# Altium footprint library CapTantalum.PcbLib: 46 footprints (part 2 of 3)
Each footprint in its own frame and in the unit in brackets; x right, y up, seen from the top. Pads: shape width x height; smd on the part's side, far side on the other; paste and mask are expansions set on the pad; w line width, h text height; cw(c..) or ccw(c..) is an arc to the next point about the centre after c.
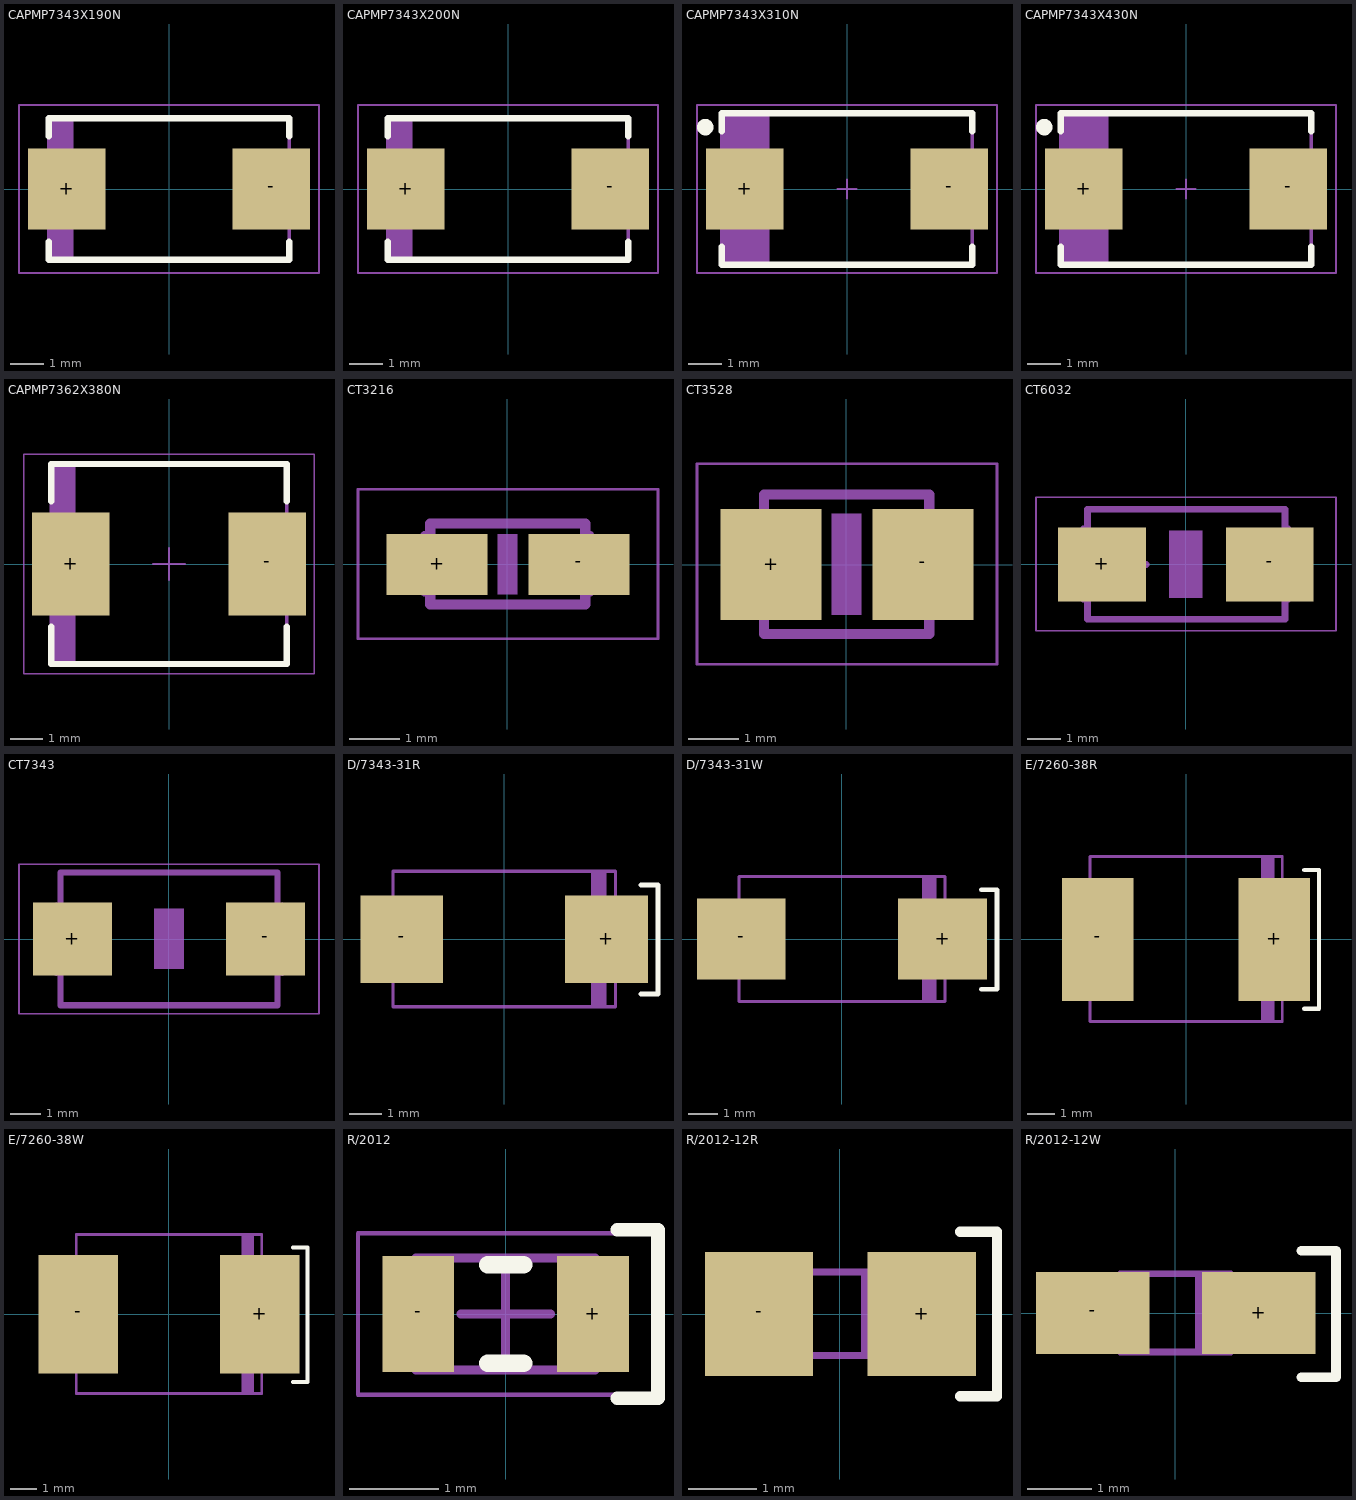
[diagram p1: the footprints below, top view; thin cyan lines are the x and y axes]

## CAPMP7343X190N [mm] "Capacitor, Polarized, Molded  Body 7.3x4.3mm, IPC Medium Density"
height 1.9
pads (2):
  rect 2.35x2.45 smd: +(-3.1,0) -(3.1,0)
Top Overlay:
  lines w0.2: -3.65,-1.6 -3.65,-2.15 3.65,-2.15 3.65,-1.6 ; -3.65,1.6 -3.65,2.15 3.65,2.15 3.65,1.6
Mechanical 14:
  lines w0.1: -3.55,-2.15 -3.55,2.15 ; -3.45,-2.15 -3.45,2.15 ; -3.35,-2.15 -3.35,2.15 ; -3.25,-2.15 -3.25,2.15 ; -3.15,-2.15 -3.15,2.15 ; -3.05,-2.15 -3.05,2.15 ; -2.95,-2.15 -2.95,2.15 ; -3.65,-2.15 -3.65,2.15 ; -3.65,-2.15 -3.65,2.15 ; -3.65,-2.15 3.65,-2.15 3.65,2.15 -3.65,2.15
Mechanical 15:
  lines w0.05: -4.55,-2.55 -4.55,2.55 4.55,2.55 4.55,-2.55 -4.55,-2.55
3D body "CAPMP7343X190N.stp": height 1.9, standoff 0, extent -3.8,-2.3 3.8,2.3

## CAPMP7343X200N [mm] "Capacitor, Polarized, Molded  Body 7.3x4.3mm, IPC Medium Density"
height 2
pads (2):
  rect 2.35x2.45 smd: +(-3.1,0) -(3.1,0)
Top Overlay:
  lines w0.2: -3.65,-1.6 -3.65,-2.15 3.65,-2.15 3.65,-1.6 ; -3.65,1.6 -3.65,2.15 3.65,2.15 3.65,1.6
Mechanical 14:
  lines w0.1: -3.55,-2.15 -3.55,2.15 ; -3.45,-2.15 -3.45,2.15 ; -3.35,-2.15 -3.35,2.15 ; -3.25,-2.15 -3.25,2.15 ; -3.15,-2.15 -3.15,2.15 ; -3.05,-2.15 -3.05,2.15 ; -2.95,-2.15 -2.95,2.15 ; -3.65,-2.15 3.65,-2.15 3.65,2.15 -3.65,2.15 ; -3.65,-2.15 -3.65,2.15 ; -3.65,-2.15 -3.65,2.15
Mechanical 15:
  lines w0.05: -4.55,-2.55 4.55,-2.55 4.55,2.55 -4.55,2.55 -4.55,-2.55
3D body "CAPMP7343X200N.stp": height 2, standoff 0, extent -3.8,-2.3 3.8,2.3

## CAPMP7343X310N [mm] "Capacitor, Polarized, Molded  Body 7.3x4.3mm, IPC Medium Density"
height 3.1
pads (2):
  rect 2.35x2.45 smd: +(-3.1,0) -(3.1,0)
Top Overlay:
  circle w0.25: c-4.3,1.875 r0.125
  lines w0.2: -3.8,-1.75 -3.8,-2.3 3.8,-2.3 3.8,-1.75 ; -3.8,1.75 -3.8,2.3 3.8,2.3 3.8,1.75
Mechanical 14:
  lines w0.1: -3.75,-2.3 -3.75,2.3 ; -3.675,-2.3 -3.675,2.3 ; -3.6,-2.3 -3.6,2.3 ; -3.525,-2.3 -3.525,2.3 ; -3.45,-2.3 -3.45,2.3 ; -3.375,-2.3 -3.375,2.3 ; -3.3,-2.3 -3.3,2.3 ; -3.225,-2.3 -3.225,2.3 ; -3.15,-2.3 -3.15,2.3 ; -3.075,-2.3 -3.075,2.3 ; -3,-2.3 -3,2.3 ; -2.925,-2.3 -2.925,2.3 ; -2.85,-2.3 -2.85,2.3 ; -2.775,-2.3 -2.775,2.3 ; -2.7,-2.3 -2.7,2.3 ; -2.625,-2.3 -2.625,2.3 ; -2.55,-2.3 -2.55,2.3 ; -2.475,-2.3 -2.475,2.3 ; -2.4,-2.3 -2.4,2.3 ; -3.8,-2.3 -3.8,2.3 3.8,2.3 3.8,-2.3 -3.8,-2.3
Mechanical 15:
  lines w0.05: -0.3,0 0.3,0 ; 0,-0.3 0,0.3 ; -4.55,-2.55 -4.55,2.55 4.55,2.55 4.55,-2.55 -4.55,-2.55
3D body "CAPMP7343X310N.stp": height 3.1, standoff 0, extent -3.8,-2.3 3.8,2.3

## CAPMP7343X430N [mm] "Capacitor, Polarized, Molded  Body 7.3x4.3mm, IPC Medium Density"
height 4.3
pads (2):
  rect 2.35x2.45 smd: +(-3.1,0) -(3.1,0)
Top Overlay:
  circle w0.25: c-4.3,1.875 r0.125
  lines w0.2: -3.8,-1.75 -3.8,-2.3 3.8,-2.3 3.8,-1.75 ; -3.8,1.75 -3.8,2.3 3.8,2.3 3.8,1.75
Mechanical 14:
  lines w0.1: -3.7,-2.3 -3.7,2.3 ; -3.625,-2.3 -3.625,2.3 ; -3.55,-2.3 -3.55,2.3 ; -3.475,-2.3 -3.475,2.3 ; -3.4,-2.3 -3.4,2.3 ; -3.325,-2.3 -3.325,2.3 ; -3.25,-2.3 -3.25,2.3 ; -3.175,-2.3 -3.175,2.3 ; -3.1,-2.3 -3.1,2.3 ; -3.025,-2.3 -3.025,2.3 ; -2.95,-2.3 -2.95,2.3 ; -2.875,-2.3 -2.875,2.3 ; -2.8,-2.3 -2.8,2.3 ; -2.725,-2.3 -2.725,2.3 ; -2.65,-2.3 -2.65,2.3 ; -2.575,-2.3 -2.575,2.3 ; -2.5,-2.3 -2.5,2.3 ; -2.4,-2.3 -2.4,2.3 ; -3.8,-2.3 3.8,-2.3 3.8,2.3 -3.8,2.3 -3.8,-2.3
Mechanical 15:
  lines w0.05: -0.3,0 0.3,0 ; 0,-0.3 0,0.3 ; -4.55,-2.55 4.55,-2.55 4.55,2.55 -4.55,2.55 -4.55,-2.55
3D body "CAPMP7343X430N.stp": height 4.3, standoff 0, extent -3.8,-2.3 3.8,2.3

## CAPMP7362X380N [mm] "Molded Capacitor, 2-Leads, Body 7.3x6.2mm, IPC Medium Density"
height 3.8
pads (2):
  rect 2.4x3.2 smd: +(-3.05,0) -(3.05,0)
Top Overlay:
  lines w0.2: -3.65,-1.95 -3.65,-3.1 3.65,-3.1 3.65,-1.95 ; -3.65,1.95 -3.65,3.1 3.65,3.1 3.65,1.95
Mechanical 14:
  lines w0.1: -3.55,-3.075 -3.55,3.075 ; -3.45,-3.075 -3.45,3.075 ; -3.35,-3.075 -3.35,3.075 ; -3.25,-3.075 -3.25,3.075 ; -3.15,-3.075 -3.15,3.075 ; -3.05,-3.075 -3.05,3.075 ; -2.95,-3.075 -2.95,3.075 ; -3.65,-3.075 3.65,-3.075 3.65,3.075 -3.65,3.075 ; -3.65,-3.075 -3.65,3.075 ; -3.65,-3.075 -3.65,3.075
Mechanical 15:
  lines w0.05: -0.5,0 0.5,0 ; 0,-0.5 0,0.5 ; -4.5,-3.4 4.5,-3.4 4.5,3.4 -4.5,3.4 -4.5,-3.4
3D body "CAPMP7362X380N.stp": height 3.8, standoff 0, extent -3.75,-3.15 3.75,3.15

## CT3216 [mil]
pads (2):
  rect 79x48 smd: +(-55.12,0) -(56,0)
Mechanical 6:
  rectangle: -7.87,-23.62 8,24
Mechanical 16:
  lines w6: -65,-22.01 -65,23 ; 65,-22.01 65,23
  lines w8: -49.61,0 -27.56,0 ; -38.19,-11.81 -38.19,11 ; -60.43,-31.42 -60.43,32 61,32 61,-31.42 -60.43,-31.42
Mechanical 27:
  lines w2: -117.05,-58.39 118,-58.39 118,59 -117.05,59 -117.05,-58.39
3D body "TantalC_SizeA_EIA-3216_Reflow.step": height 70.87, standoff 0, extent -66.93,-35.44 66.92,35.43

## CT3528 [mil]
pads (2):
  rect 79x87 smd: +(-59.06,0) -(60,0)
Mechanical 6:
  rectangle: -11.81,-39.37 12,40
Mechanical 16:
  lines w6: -70,-40 -70,40 ; 70,-40 70,40
  lines w8: -51.57,0 -26.77,0 ; -39.37,-12.99 -39.37,12 ; -64.45,-54.45 65,-54.45 65,55 -64.45,55 -64.45,-54.45
Mechanical 27:
  lines w2: -117.05,-78.07 -117.05,79 118,79 118,-78.07 -117.05,-78.07
3D body "TantalC_SizeB_EIA-3528_Reflow.step": height 82.68, standoff 0, extent -72.84,-59.05 72.83,59.06

## CT6032 [mil]
pads (2):
  rect 103x87 smd: +(-98.43,0) -(99,0)
Mechanical 6:
  rectangle: -19.69,-39.37 20,40
Mechanical 16:
  lines w6: -120.98,-42.01 -120.98,43 ; 121,-42.01 121,43
  lines w8: -96.46,0 -46.46,0 ; -70.87,-25.2 -70.87,25 ; -115.43,-64.45 117,-64.45 117,65 -115.43,65 -115.43,-64.45
Mechanical 27:
  lines w2: -176.1,-78.07 -176.1,79 177,79 177,-78.07 -176.1,-78.07
3D body "TantalC_SizeC_EIA-6032_Reflow.step": height 110.24, standoff 0, extent -124.02,-68.9 124.01,68.89

## CT7343 [mil]
pads (2):
  rect 103x95 smd: +(-125.98,0) -(126,0)
Mechanical 6:
  rectangle: -19.69,-39.37 20,40
Mechanical 16:
  lines w6: -147.01,-45 -147.01,45 ; 148,-45 148,45
  lines w8: -121.65,0 -80.31,0 ; -100.39,-20.47 -100.39,21 ; -141.42,-86.42 -141.42,87 142,87 142,-86.42 -141.42,-86.42
Mechanical 27:
  lines w2: -195.79,-97.76 196,-97.76 196,98 -195.79,98 -195.79,-97.76
3D body "TantalC_SizeD_EIA-7343_Reflow.step": height 122.05, standoff 0, extent -149.61,-90.55 149.6,90.55

## D/7343-31R [mil]
pads (2):
  rect 101x107 smd: +(125,0) -(-125,0)
Top Overlay:
  lines w6: 167,-67 188,-67 188,66 167,66
Mechanical 16:
  rectangle: -143.7,-47.24 -137.8,48
  rectangle: 138,-47.24 144,48
  rectangle: 106,-83.66 125,84
  lines w4: -135.83,-82.68 136,-82.68 136,83 -135.83,83 -135.83,-82.68
3D body "TantalC_SizeD_EIA-7343_Reflow.step": height 122.05, standoff 0, extent -149.6,-90.55 149.61,90.56

## D/7343-31W [mil]
pads (2):
  rect 117x107 smd: +(133,0) -(-132.87,0)
Top Overlay:
  lines w6: 184,-66 205,-66 205,65 184,65
Mechanical 16:
  rectangle: -143.7,-47.24 -137.8,48
  rectangle: 138,-47.24 144,48
  rectangle: 106,-83.66 125,84
  lines w4: -135.83,-82.68 136,-82.68 136,83 -135.83,83 -135.83,-82.68
3D body "TantalC_SizeD_EIA-7343_Wave.step": height 122.05, standoff 0, extent -148.6,-91.54 150.61,89.56

## E/7260-38R [mil]
pads (2):
  rect 101x174 smd: +(125,0) -(-125,0)
Top Overlay:
  lines w6: 167,-98 188,-98 188,98 167,98
Mechanical 16:
  rectangle: -143.7,-80.71 -137.8,81
  rectangle: 138,-80.71 144,81
  rectangle: 106,-117.13 125,118
  lines w4: -135.83,-116.14 136,-116.14 136,117 -135.83,117 -135.83,-116.14
3D body "TantalC_SizeE_EIA-7360_Reflow.step": height 149.61, standoff 0, extent -148.6,-126.01 150.61,122.02

## E/7260-38W [mil]
pads (2):
  rect 117x174 smd: +(133,0) -(-132.87,0)
Top Overlay:
  lines w6: 182,-99 203,-99 203,98 182,98
Mechanical 16:
  rectangle: 106,-117.13 125,118
  rectangle: 138,-80.71 144,81
  rectangle: -143.7,-80.71 -137.8,81
  lines w4: -135.83,-116.14 -135.83,117 136,117 136,-116.14 -135.83,-116.14
3D body "TantalC_SizeE_EIA-7360_Wave.step": height 149.61, standoff 0, extent -149.6,-123.01 149.61,125.02

## R/2012 [mm] "R/2012 - 0805 (2012 métrico) 0.079\" L x 0.049\" A (2.00 mm x 1.25 mm)"
height 0.5
pads (2):
  rect 0.8x1.3 smd: +(0.975,0) -(-0.975,0)
Top Overlay:
  lines w0.152: 1.245,-0.94 1.702,-0.94 1.702,0.94 1.245,0.94
  lines w0.2: -0.2,-0.55 0.2,-0.55 ; -0.2,0.55 0.2,0.55
Mechanical 13:
  lines w0.1: -1,-0.625 -1,0.625 1,0.625 1,-0.625 -1,-0.625
Mechanical 15:
  lines w0.05: -1.65,-0.9 -1.65,0.9 1.65,0.9 1.65,-0.9 -1.65,-0.9
  lines w0.1: -0.5,0 0.5,0 ; 0,-0.5 0,0.5
3D body "TantalC_SizeR_EIA-2012.step": height 1.2, standoff 0, extent -1,-0.65 1,0.65

## R/2012-12R [mil]
pads (2):
  rect 62x71 smd: +(47,0) -(-46.26,0)
Top Overlay:
  lines w6: 69,-47 90,-47 90,47 69,47
Mechanical 16:
  rectangle: 12,-24.61 20,25
  rectangle: 35,-17.72 40,18
  rectangle: -39.37,-17.72 -34.45,18
  lines w4: -33.46,-23.62 -33.46,24 34,24 34,-23.62 -33.46,-23.62
3D body "TantalC_SizeR_EIA-2012.step": height 47.24, standoff 0, extent -37.36,-25.59 41.38,25.6

## R/2012-12W [mil]
pads (2):
  rect 69x50 smd: +(51,0) -(-50.2,0)
Top Overlay:
  lines w6: 77,-39 98,-39 98,38 77,38
Mechanical 16:
  rectangle: 12,-24.61 20,25
  rectangle: 35,-17.72 40,18
  rectangle: -39.37,-17.72 -34.45,18
  lines w4: -33.46,-23.62 -33.46,24 34,24 34,-23.62 -33.46,-23.62
3D body "TantalC_SizeR_EIA-2012.step": height 47.24, standoff 0, extent -39.36,-25.59 39.37,25.59